# Altium footprint library dev-boards.PcbLib: 2 footprints
Each footprint in its own frame and in the unit in brackets; x right, y up, seen from the top. Pads: shape width x height; smd on the part's side, far side on the other; paste and mask are expansions set on the pad; w line width, h text height; cw(c..) or ccw(c..) is an arc to the next point about the centre after c.
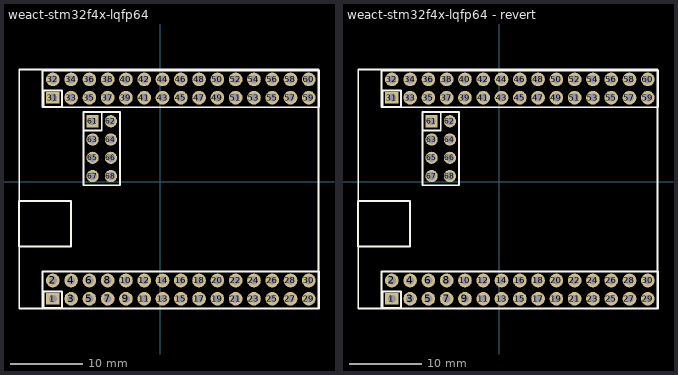
[diagram p0: the footprints below, top view; thin cyan lines are the x and y axes]

## weact-stm32f4x-lqfp64 [mm] "WeActStudio.STM32F4_64Pin_CoreBoard / STM32F405RGT6 / STM32F412RET6 / STM32F446RET6"
pads (68):
  rect 1.9x1.575 hole 1.1 paste-2539.97 mask+0.051: 1(-14.927,-16.279) 31(-14.927,11.661)
  round 1.9 hole 1.1 paste-2539.97 mask+0.051: 2(-14.927,-13.739) 3(-12.387,-16.279) 4(-12.387,-13.739) 5(-9.847,-16.279) 6(-9.847,-13.739) 7(-7.307,-16.279) 8(-7.307,-13.739) 9(-4.767,-16.279) 10(-4.767,-13.739) 11(-2.227,-16.279) 12(-2.227,-13.739) 13(0.313,-16.279) 14(0.313,-13.739) 15(2.853,-16.279) 16(2.853,-13.739) 17(5.393,-16.279) 18(5.393,-13.739) 19(7.933,-16.279) 20(7.933,-13.739) 21(10.473,-16.279) 22(10.473,-13.739) 23(13.013,-16.279) 24(13.013,-13.739) 25(15.553,-16.279) 26(15.553,-13.739) 27(18.093,-16.279) 28(18.093,-13.739) 29(20.633,-16.279) 30(20.633,-13.739) 32(-14.927,14.201) 33(-12.387,11.661) 34(-12.387,14.201) 35(-9.847,11.661) 36(-9.847,14.201) 37(-7.307,11.661) 38(-7.307,14.201) 39(-4.767,11.661) 40(-4.767,14.201) 41(-2.227,11.661) 42(-2.227,14.201) 43(0.313,11.661) 44(0.313,14.201) 45(2.853,11.661) 46(2.853,14.201) 47(5.393,11.661) 48(5.393,14.201) 49(7.933,11.661) 50(7.933,14.201) 51(10.473,11.661) 52(10.473,14.201) 53(13.013,11.661) 54(13.013,14.201) 55(15.553,11.661) 56(15.553,14.201) 57(18.093,11.661) 58(18.093,14.201) 59(20.633,11.661) 60(20.633,14.201)
  rect 1.7x1.7 hole 1.1 paste-2539.97 mask+0.051: 61(-9.398,8.382)
  round 1.7 hole 1.1 paste-2539.97 mask+0.051: 62(-6.858,8.384) 63(-9.398,5.842) 64(-6.858,5.842) 65(-9.398,3.302) 66(-6.858,3.302) 67(-9.398,0.762) 68(-6.858,0.762)
Top Overlay:
  lines w0.254: -10.668,7.112 -8.128,7.112 -8.128,9.652 ; -5.588,-0.508 -10.668,-0.508 -10.668,9.652 -5.588,9.652 -5.588,-0.498 ; -19.626,-9.04 -12.387,-9.04 -12.387,-2.69 -19.626,-2.69 -19.626,-9.04 ; -19.597,-17.628 22.003,-17.628 22.003,15.571 -19.597,15.571 -19.597,-17.628 ; -16.347,-17.609 22.053,-17.609 22.053,-12.509 -16.347,-12.509 -16.347,-17.609 ; -16.347,10.331 22.053,10.331 22.053,15.431 -16.347,15.431 -16.347,10.331 ; -16.197,-17.549 -13.657,-17.549 -13.657,-15.263 -16.197,-15.263 -16.197,-17.549 ; -16.197,10.391 -13.657,10.391 -13.657,12.677 -16.197,12.677 -16.197,10.391
3D body "WeAct-STM32F4_64PIN-CoreBoard_V10 3D.step": height 12.03, standoff 0.04, extent -19.612,-17.628 22.018,15.592

## weact-stm32f4x-lqfp64 - revert [mm] "WeActStudio.STM32F4_64Pin_CoreBoard / STM32F405RGT6 / STM32F412RET6 / STM32F446RET6"
pads (68):
  rect 1.9x1.575 hole 1.1 paste-2539.97 mask+0.051: 1(-14.927,-16.279) 31(-14.927,11.661)
  round 1.9 hole 1.1 paste-2539.97 mask+0.051: 2(-14.927,-13.739) 3(-12.387,-16.279) 4(-12.387,-13.739) 5(-9.847,-16.279) 6(-9.847,-13.739) 7(-7.307,-16.279) 8(-7.307,-13.739) 9(-4.767,-16.279) 10(-4.767,-13.739) 11(-2.227,-16.279) 12(-2.227,-13.739) 13(0.313,-16.279) 14(0.313,-13.739) 15(2.853,-16.279) 16(2.853,-13.739) 17(5.393,-16.279) 18(5.393,-13.739) 19(7.933,-16.279) 20(7.933,-13.739) 21(10.473,-16.279) 22(10.473,-13.739) 23(13.013,-16.279) 24(13.013,-13.739) 25(15.553,-16.279) 26(15.553,-13.739) 27(18.093,-16.279) 28(18.093,-13.739) 29(20.633,-16.279) 30(20.633,-13.739) 32(-14.927,14.201) 33(-12.387,11.661) 34(-12.387,14.201) 35(-9.847,11.661) 36(-9.847,14.201) 37(-7.307,11.661) 38(-7.307,14.201) 39(-4.767,11.661) 40(-4.767,14.201) 41(-2.227,11.661) 42(-2.227,14.201) 43(0.313,11.661) 44(0.313,14.201) 45(2.853,11.661) 46(2.853,14.201) 47(5.393,11.661) 48(5.393,14.201) 49(7.933,11.661) 50(7.933,14.201) 51(10.473,11.661) 52(10.473,14.201) 53(13.013,11.661) 54(13.013,14.201) 55(15.553,11.661) 56(15.553,14.201) 57(18.093,11.661) 58(18.093,14.201) 59(20.633,11.661) 60(20.633,14.201)
  rect 1.7x1.7 hole 1.1 paste-2539.97 mask+0.051: 61(-9.398,8.382)
  round 1.7 hole 1.1 paste-2539.97 mask+0.051: 62(-6.858,8.384) 63(-9.398,5.842) 64(-6.858,5.842) 65(-9.398,3.302) 66(-6.858,3.302) 67(-9.398,0.762) 68(-6.858,0.762)
Top Overlay:
  lines w0.254: -10.668,7.112 -8.128,7.112 -8.128,9.652 ; -5.588,-0.508 -10.668,-0.508 -10.668,9.652 -5.588,9.652 -5.588,-0.498 ; -19.626,-9.04 -12.387,-9.04 -12.387,-2.69 -19.626,-2.69 -19.626,-9.04 ; -19.597,-17.628 22.003,-17.628 22.003,15.571 -19.597,15.571 -19.597,-17.628 ; -16.347,-17.609 22.053,-17.609 22.053,-12.509 -16.347,-12.509 -16.347,-17.609 ; -16.347,10.331 22.053,10.331 22.053,15.431 -16.347,15.431 -16.347,10.331 ; -16.197,-17.549 -13.657,-17.549 -13.657,-15.263 -16.197,-15.263 -16.197,-17.549 ; -16.197,10.391 -13.657,10.391 -13.657,12.677 -16.197,12.677 -16.197,10.391
3D body "WeAct-STM32F4_64PIN-CoreBoard_V10 3D.step": height 8.57, standoff -3.42, extent -19.612,-17.628 22.018,15.592